# EAGLE library part L298N (library L298n)
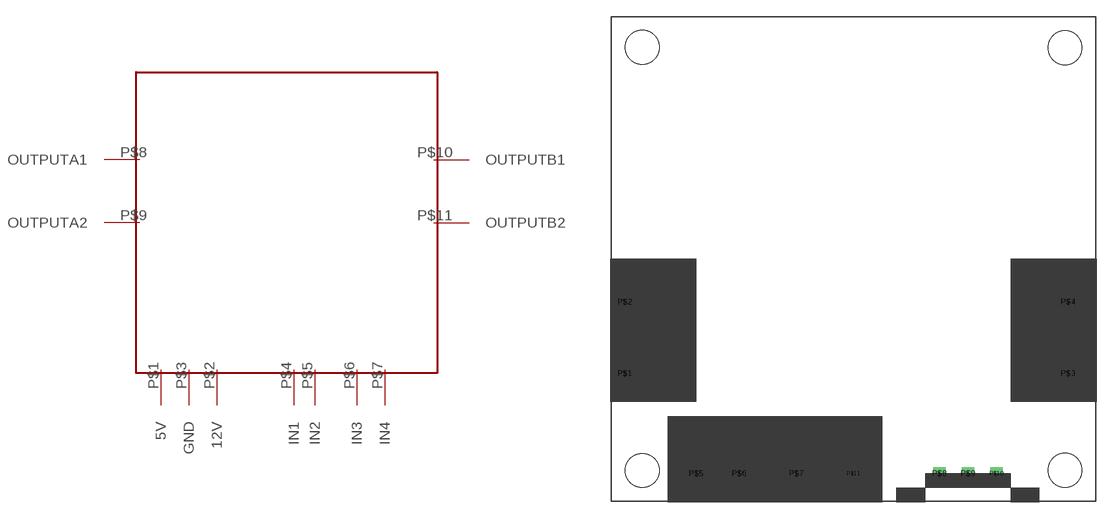
[diagram p0: symbol with the pads of L298N; footprint L298N]

Designator prefix -

## L298N  [L298N]
P$1  5V
P$2  12V
P$3  GND
P$4  IN1
P$5  IN2
P$6  IN3
P$7  IN4
P$8  OUTPUTA1
P$9  OUTPUTA2
P$10  OUTPUTB1
P$11  OUTPUTB2

## Footprint L298N (pad centres in mm)
drill 0.6 square: P$1 -20.32,-10.16; P$2 -20.32,-3.81; P$3 19.05,-10.16; P$4 19.05,-3.81; P$5 -13.97,-19.05; P$6 -10.16,-19.05; P$7 -5.08,-19.05; P$8 7.62,-19.05; P$9 10.16,-19.05; P$10 12.7,-19.05; P$11 0,-19.05
hole 3 at 18.792,18.765
hole 3 at 18.792,-18.765
hole 3 at -18.765,-18.792
hole 3 at -18.765,18.792